# EAGLE library part MTA06-156 (library matt con-amp)
AMP connector
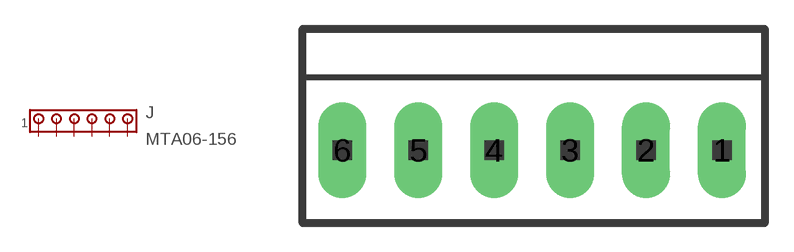
[diagram p111: symbol with the pads of 1X6MTA; footprint 1X6MTA]

Designator prefix J

## MTA06-156  [1X6MTA]
1  1  pas
2  2  pas
3  3  pas
4  4  pas
5  5  pas
6  6  pas

## Footprint 1X6MTA (pad centres in mm)
AMP MTA connector
drill 1.676 long: 1 9.906,0; 2 5.944,0; 3 1.981,0; 4 -1.981,0; 5 -5.944,0; 6 -9.906,0